# Altium integrated library Splitter.IntLib: 2 symbols
Pins are listed as number, name and electrical type; pins without a type are passive.

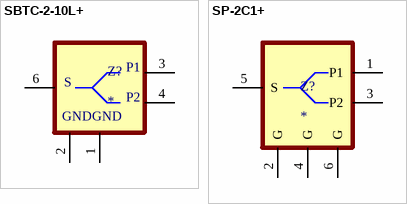
[diagram p0: symbols SBTC-2-10L+ to SP-2C1+]

## SBTC-2-10L+
designator Z?
Power Divider, 2 Way-0 , 0.005 to 1.0 GHz, 50 ohms, SMT; MF: Mini-Circuits; MP: SBTC-2-10L+; Value: *; Price: None; Package: None; Check_prices: https://www.snapeda.com/parts/SBTC-2-10L+/Mini-Circuits/view-part/564803/?ref=eda; Availability: Warning; Purchase-URL: https://pricing.snapeda.com/search/part/SBTC-2-10L+/?ref=eda; SnapEDA_Link: https://www.snapeda.com/parts/SBTC-2-10L+/Mini-Circuits/view-part/564803/?ref=snap
footprint AT1029
pins: 1 GND2, 2 GND1, 3 P1, 4 P2, 6 S
text: GND

## SP-2C1+
designator Z?
Power Divider, 2 Way-0 , 640 to 1100MHz, 50 ohms, SMT; MF: Mini-Circuits; MP: SBTC-2-10L+; Value: *; Price: None; Package: None; Check_prices: https://www.snapeda.com/parts/SBTC-2-10L+/Mini-Circuits/view-part/564803/?ref=eda; Availability: Warning; Purchase-URL: https://pricing.snapeda.com/search/part/SBTC-2-10L+/?ref=eda; SnapEDA_Link: https://www.snapeda.com/parts/SBTC-2-10L+/Mini-Circuits/view-part/564803/?ref=snap
footprint SP-2C1+ (Power Splitter/Combiner 640 to 1100MHz)
pins: 1 P1, 2 G, 3 P2, 4 G, 5 S, 6 G